# EAGLE library part PWMHEADER (library teamFusion)
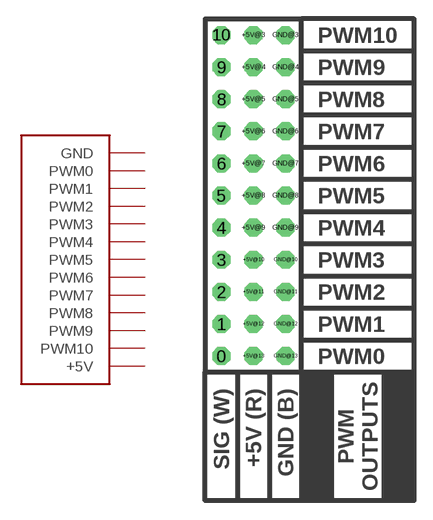
[diagram p0: symbol with the pads of PWMHEADER; footprint PWMHEADER]

Designator prefix -

## PWMHEADER  [PWMHEADER]
0  PWM0  out
1  PWM1  out
2  PWM2  out
3  PWM3  out
4  PWM4  out
5  PWM5  out
6  PWM6  out
7  PWM7  out
8  PWM8  out
9  PWM9  out
10  PWM10  out
+5V@3  +5V  pwr
+5V@4  +5V  pwr
+5V@5  +5V  pwr
+5V@6  +5V  pwr
+5V@7  +5V  pwr
+5V@8  +5V  pwr
+5V@9  +5V  pwr
+5V@10  +5V  pwr
+5V@11  +5V  pwr
+5V@12  +5V  pwr
+5V@13  +5V  pwr
GND@3  GND  pwr
GND@4  GND  pwr
GND@5  GND  pwr
GND@6  GND  pwr
GND@7  GND  pwr
GND@8  GND  pwr
GND@9  GND  pwr
GND@10  GND  pwr
GND@11  GND  pwr
GND@12  GND  pwr
GND@13  GND  pwr

## Footprint PWMHEADER (pad centres in mm)
drill 0.914 octagon: 0 1.27,11.43; 1 1.27,13.97; 2 1.27,16.51; 3 1.27,19.05; 4 1.27,21.59; 5 1.27,24.13; 6 1.27,26.67; 7 1.27,29.21; 8 1.27,31.75; 9 1.27,34.29; 10 1.27,36.83; +5V@3 3.81,36.83; +5V@4 3.81,34.29; +5V@5 3.81,31.75; +5V@6 3.81,29.21; +5V@7 3.81,26.67; +5V@8 3.81,24.13; +5V@9 3.81,21.59; +5V@10 3.81,19.05; +5V@11 3.81,16.51; +5V@12 3.81,13.97; +5V@13 3.81,11.43; GND@3 6.35,36.83; GND@4 6.35,34.29; GND@5 6.35,31.75; GND@6 6.35,29.21; GND@7 6.35,26.67; GND@8 6.35,24.13; GND@9 6.35,21.59; GND@10 6.35,19.05; GND@11 6.35,16.51; GND@12 6.35,13.97; GND@13 6.35,11.43